# EAGLE library part FGM-2 (library SteveMarple)
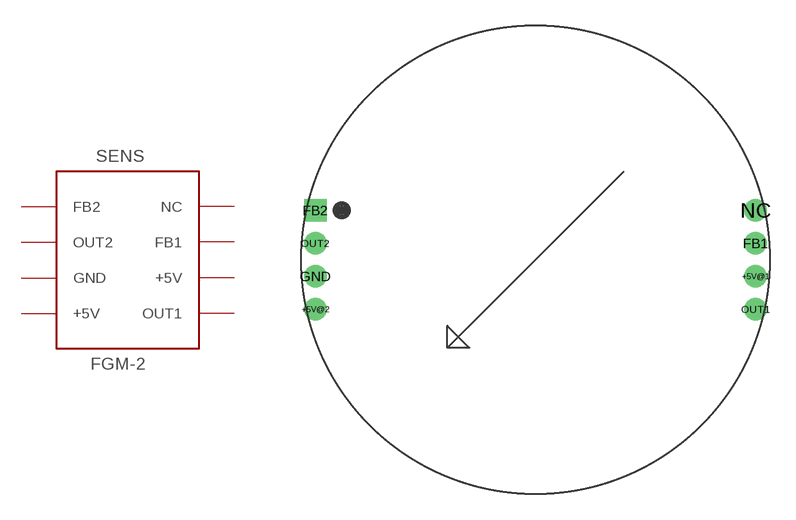
[diagram p11: symbol with the pads of FGM-2; footprint FGM-2]

Designator prefix SENS

## FGM-2  [FGM-2]
+5V@1  +5V  pwr
+5V@2  +5V  pwr
FB1  FB1  pas
FB2  FB2  pas
GND  GND  pwr
NC  NC  nc
OUT1  OUT1  out
OUT2  OUT2  out

## Footprint FGM-2 (pad centres in mm)
drill 0.8: +5V@1 12.7,-0.953; +5V@2 -12.7,-2.857; FB1 12.7,0.953; GND -12.7,-0.953; NC 12.7,2.857; OUT1 12.7,-2.857; OUT2 -12.7,0.953
drill 0.8 square: FB2 -12.7,2.857